# Altium footprint library opto-micro-linear.PCBLIB: 4 footprints
Each footprint in its own frame and in the unit in brackets; x right, y up, seen from the top. Pads: shape width x height; smd on the part's side, far side on the other; paste and mask are expansions set on the pad; w line width, h text height; cw(c..) or ccw(c..) is an arc to the next point about the centre after c.
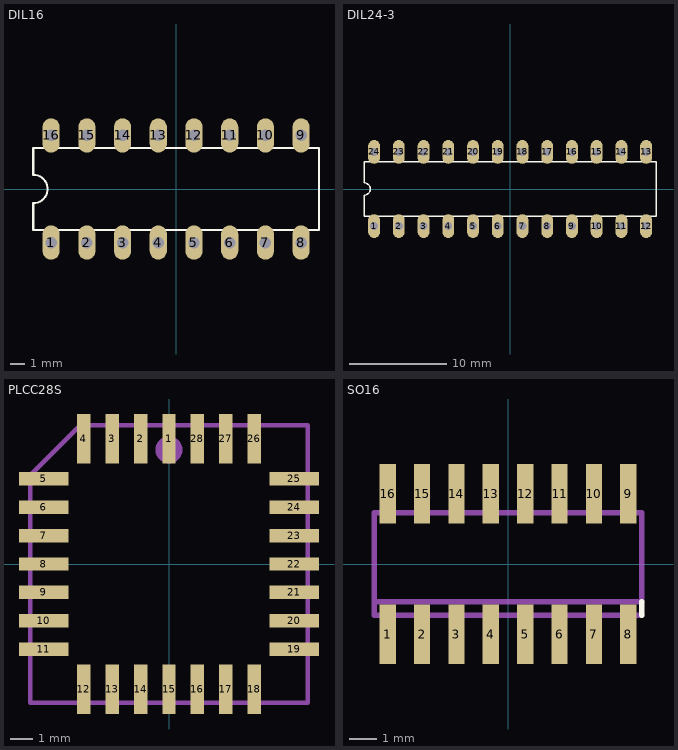
[diagram p0: the footprints below, top view; thin cyan lines are the x and y axes]

## DIL16 [mil]
pads (16):
  oval 48x96 hole 32: 1(-350,-150) 2(-250,-150) 3(-150,-150) 4(-50,-150) 5(50,-150) 6(150,-150) 7(250,-150) 8(350,-150) 9(350,150) 10(250,150) 11(150,150) 12(50,150) 13(-50,150) 14(-150,150) 15(-250,150) 16(-350,150)
Top Overlay:
  lines w6: -400,-115 400,-115 400,115 -400,115 -400,40 cw(c-400,0) -400,-40 -400,-115

## DIL24-3 [mil]
pads (24):
  oval 48x96 hole 32: 1(-550,-150) 2(-450,-150) 3(-350,-150) 4(-250,-150) 5(-150,-150) 6(-50,-150) 7(50,-150) 8(150,-150) 9(250,-150) 10(350,-150) 11(450,-150) 12(550,-150) 13(550,150) 14(450,150) 15(350,150) 16(250,150) 17(150,150) 18(50,150) 19(-50,150) 20(-150,150) 21(-250,150) 22(-350,150) 23(-450,150) 24(-550,150)
Top Overlay:
  lines w6: -590,-110 -590,-25 ccw(c-590,0) -590,25 -590,110 590,110 590,-110 -590,-110

## PLCC28S [mil]
pads (28):
  rect 23.62x86.61 smd: 1(0,220.47) 2(-50,220.47) 3(-100,220.47) 4(-150,220.47) 12(-150,-220.47) 13(-100,-220.47) 14(-50,-220.47) 15(0,-220.47) 16(50,-220.47) 17(100,-220.47) 18(150,-220.47) 26(150,220.47) 27(100,220.47) 28(50,220.47)
  rect 86.61x23.62 smd: 5(-220.47,150) 6(-220.47,100) 7(-220.47,50) 8(-220.47,0) 9(-220.47,-50) 10(-220.47,-100) 11(-220.47,-150) 19(220.47,-150) 20(220.47,-100) 21(220.47,-50) 22(220.47,0) 23(220.47,50) 24(220.47,100) 25(220.47,150)
Mechanical 16:
  circle w24: c0,200.79 r11.81
  rectangle: -10.24,246.06 10.24,263.78
  rectangle: -60.24,246.06 -39.76,263.78
  rectangle: -110.24,246.06 -89.76,263.78
  rectangle: -160.24,246.06 -139.76,263.78
  rectangle: -263.78,139.76 -246.06,160.24
  rectangle: -263.78,89.76 -246.06,110.24
  rectangle: -263.78,39.76 -246.06,60.24
  rectangle: -263.78,-10.24 -246.06,10.24
  rectangle: -263.78,-60.24 -246.06,-39.76
  rectangle: -263.78,-110.24 -246.06,-89.76
  rectangle: -263.78,-160.24 -246.06,-139.76
  rectangle: -160.24,-263.78 -139.76,-246.06
  rectangle: -110.24,-263.78 -89.76,-246.06
  rectangle: -60.24,-263.78 -39.76,-246.06
  rectangle: -10.24,-263.78 10.24,-246.06
  rectangle: 39.76,-263.78 60.24,-246.06
  rectangle: 89.76,-263.78 110.24,-246.06
  rectangle: 139.76,-263.78 160.24,-246.06
  rectangle: 246.06,-160.24 263.78,-139.76
  rectangle: 246.06,-110.24 263.78,-89.76
  rectangle: 246.06,-60.24 263.78,-39.76
  rectangle: 246.06,-10.24 263.78,10.24
  rectangle: 246.06,39.76 263.78,60.24
  rectangle: 246.06,89.76 263.78,110.24
  rectangle: 246.06,139.76 263.78,160.24
  rectangle: 139.76,246.06 160.24,263.78
  rectangle: 89.76,246.06 110.24,263.78
  rectangle: 39.76,246.06 60.24,263.78
  lines w8: -244.09,-244.09 -244.09,156.1 -156.1,244.09 244.09,244.09 244.09,-244.09 -244.09,-244.09

## SO16 [mil]
pads (16):
  rect 23.62x86.61 smd: 1(-175,-102.36) 2(-125,-102.36) 3(-75,-102.36) 4(-25,-102.36) 5(25,-102.36) 6(75,-102.36) 7(125,-102.36) 8(175,-102.36) 9(175,102.36) 10(125,102.36) 11(75,102.36) 12(25,102.36) 13(-25,102.36) 14(-75,102.36) 15(-125,102.36) 16(-175,102.36)
Top Overlay:
  lines w8: 194.49,-74.8 194.49,-55.12
Mechanical 16:
  rectangle: -184.65,-122.05 -165.35,-78.74
  rectangle: -134.65,-122.05 -115.35,-78.74
  rectangle: -84.65,-122.05 -65.35,-78.74
  rectangle: -34.65,-122.05 -15.35,-78.74
  rectangle: 65.35,78.74 84.65,122.05
  rectangle: 15.35,78.74 34.65,122.05
  rectangle: -34.65,78.74 -15.35,122.05
  rectangle: -84.65,78.74 -65.35,122.05
  rectangle: 15.35,-122.05 34.65,-78.74
  rectangle: 65.35,-122.05 84.65,-78.74
  rectangle: 115.35,-122.05 134.65,-78.74
  rectangle: 165.35,-122.05 184.65,-78.74
  rectangle: 165.35,78.74 184.65,122.05
  rectangle: 115.35,78.74 134.65,122.05
  rectangle: -134.65,78.74 -115.35,122.05
  rectangle: -184.65,78.74 -165.35,122.05
  lines w8: 194.49,-74.8 -194.49,-74.8 -194.49,-55.12 ; -194.49,-55.12 -194.49,74.8 194.49,74.8 194.49,-55.12 -194.49,-55.12